# EAGLE library part ICL7660 (library VCO)
CMOS Voltage Converters
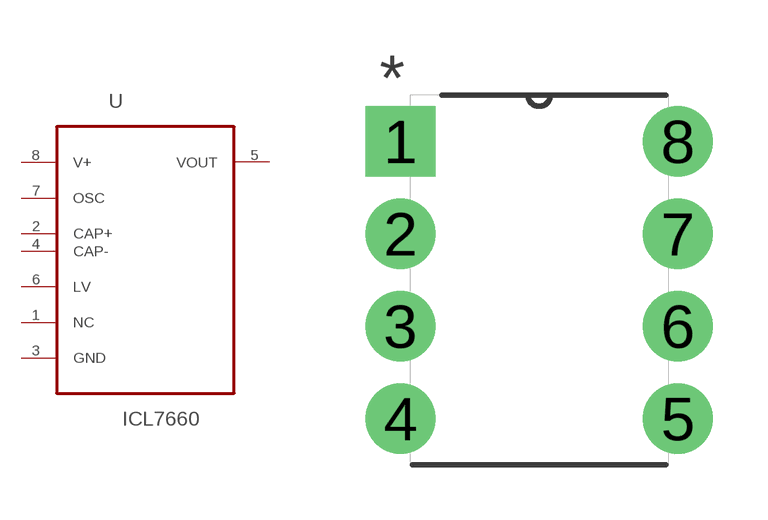
[diagram p1: symbol with the pads of DIP254P762X533-8; footprint DIP254P762X533-8]

Designator prefix U

## ICL7660 (MPN: ICL7660ACPAZ; OC_FARNELL: 1562064; OC_NEWARK: 79K6924; PACKAGE: PDIP-8; SUPPLIER: INTERSIL)  [DIP254P762X533-8]
1  NC  nc
2  CAP+  in
3  GND  pas
4  CAP-  in
5  VOUT  out
6  LV  pas
7  OSC  in
8  V+  pwr

## Footprint DIP254P762X533-8 (pad centres in mm)
drill 1.118 pad 1.93 square: 1 -7.62,7.62
drill 1.118 pad 1.93: 2 -7.62,5.08; 3 -7.62,2.54; 4 -7.62,0; 5 0,0; 6 0,2.54; 7 0,5.08; 8 0,7.62